# Altium schematic symbol library JEILI_DEV_BOARD.SchLib: 63 symbols
Pins are listed as number, name and electrical type; pins without a type are passive.

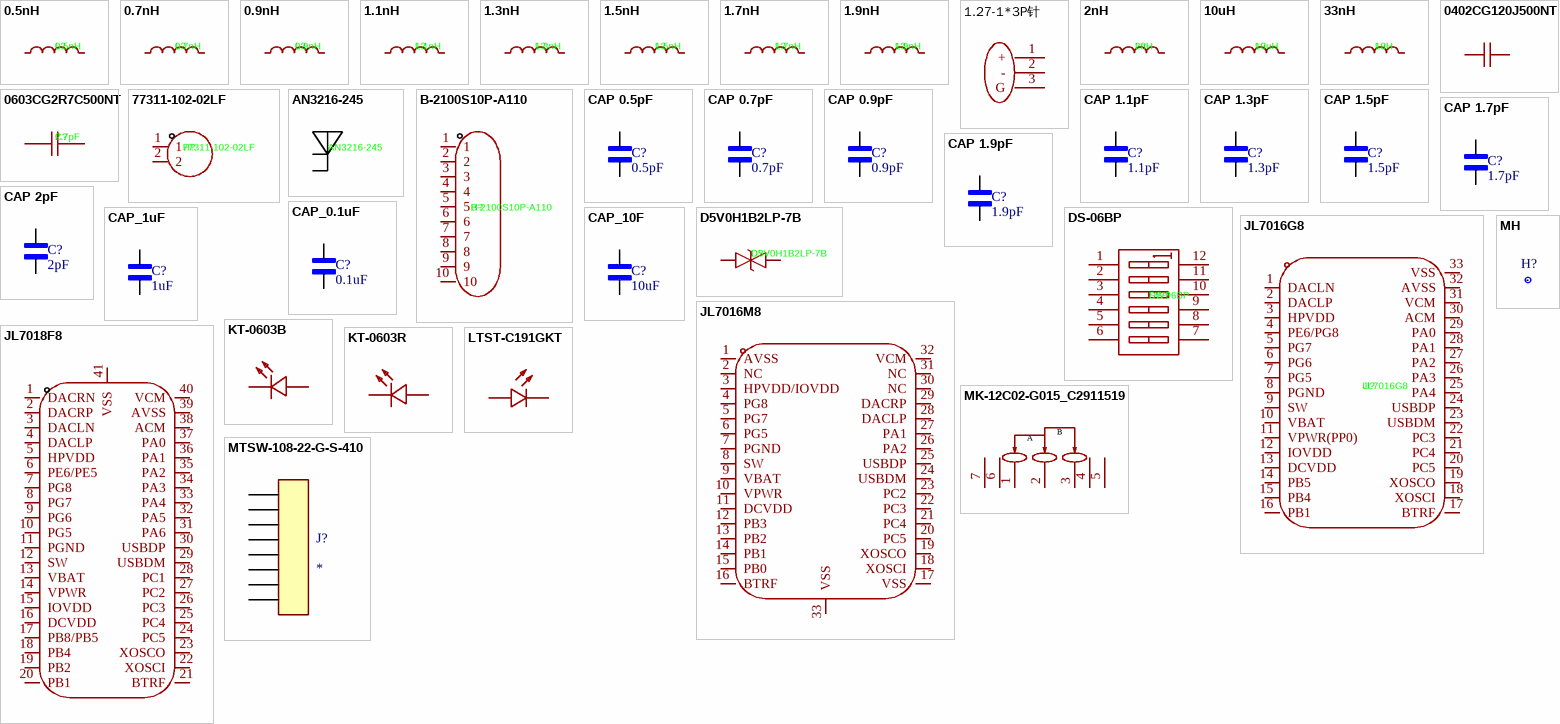
[diagram p0: symbols 0.5nH to MTSW-108-22-G-S-410]

## 0.5nH
designator L?
0.5nH 100mΩ 10GHz 1A Multilayer inductor 0402 Inductors (SMD) ROHS; Manufacturer: TDK; Manufacturer Part: MLG1005S0N5BT000; Symbol: DFE18SAN1R0ME0L; Add into BOM: yes; Tolerance: ±20%; Current Rating: 1.6A; DC Resistance(DCR): 144mΩ; Device: DFE18SAN1R0ME0L; LCSC Part Name: 1uH ±20%; Supplier Part: C87528; Supplier Footprint: 0603; JLCPCB Part Class: Extended Part; Datasheet: https://atta.szlcsc.com/upload/public/pdf/source/20210601/1EEB72040C737E24AB5C3900F417DA4B.pdf; Supplier: LCSC; Convert to PCB: yes; Value: 0.5nH; Current - Saturation (Isat): -; Q @ Frequency: -; Frequency - Self Resonant: -; Ratings: -
footprint L0603
3D model L0603_L1.6-W0.8-H0.5_BEAD
pins: 1, 2

## 0.7nH
designator L?
0.7nH 100mΩ 10GHz 1A Multilayer inductor 0402 Inductors (SMD) ROHS; Manufacturer: TDK; Manufacturer Part: MLG1005S0N7BT000; Symbol: DFE18SAN1R0ME0L; Add into BOM: yes; Tolerance: ±20%; Current Rating: 1.6A; DC Resistance(DCR): 144mΩ; Device: DFE18SAN1R0ME0L; LCSC Part Name: 1uH ±20%; Supplier Part: C275262; Supplier Footprint: 0603; JLCPCB Part Class: Extended Part; Datasheet: https://atta.szlcsc.com/upload/public/pdf/source/20210601/1EEB72040C737E24AB5C3900F417DA4B.pdf; Supplier: LCSC; Convert to PCB: yes; Value: 0.7nH; Current - Saturation (Isat): -; Q @ Frequency: -; Frequency - Self Resonant: -; Ratings: -
footprint L0603
3D model L0603_L1.6-W0.8-H0.5_BEAD
pins: 1, 2

## 0.9nH
designator L?
0.9nH 100mΩ 10GHz 1A Multilayer inductor 0402 Inductors (SMD) ROHS; Manufacturer: TDK; Manufacturer Part: MLG1005S0N9BT000; Symbol: DFE18SAN1R0ME0L; Add into BOM: yes; Tolerance: ±20%; Current Rating: 1.6A; DC Resistance(DCR): 144mΩ; Device: DFE18SAN1R0ME0L; LCSC Part Name: 1uH ±20%; Supplier Part: C275263; Supplier Footprint: 0603; JLCPCB Part Class: Extended Part; Datasheet: https://atta.szlcsc.com/upload/public/pdf/source/20210601/1EEB72040C737E24AB5C3900F417DA4B.pdf; Supplier: LCSC; Convert to PCB: yes; Value: 0.9nH; Current - Saturation (Isat): -; Q @ Frequency: -; Frequency - Self Resonant: -; Ratings: -
footprint L0603
3D model L0603_L1.6-W0.8-H0.5_BEAD
pins: 1, 2

## 1.1nH
designator L?
1.1nH 10GHz 1A 30mΩ 7@100MHz AEC-Q200 Multilayer inductor 0402 Inductors (SMD) ROHS; Manufacturer: TDK; Manufacturer Part: MLG1005S1N1BTD25; Symbol: DFE18SAN1R0ME0L; Add into BOM: yes; Tolerance: ±20%; Current Rating: 1.6A; DC Resistance(DCR): 144mΩ; Device: DFE18SAN1R0ME0L; LCSC Part Name: 1uH ±20%; Supplier Part: C404613; Supplier Footprint: 0603; JLCPCB Part Class: Extended Part; Datasheet: https://atta.szlcsc.com/upload/public/pdf/source/20210601/1EEB72040C737E24AB5C3900F417DA4B.pdf; Supplier: LCSC; Convert to PCB: yes; Value: 1.1nH; Current - Saturation (Isat): -; Q @ Frequency: -; Frequency - Self Resonant: -; Ratings: -
footprint L0603
3D model L0603_L1.6-W0.8-H0.5_BEAD
pins: 1, 2

## 1.3nH
designator L?
1.3nH 1A 40mΩ 7@100MHz 8GHz Multilayer inductor 0402 Inductors (SMD) ROHS; Manufacturer: TDK; Manufacturer Part: MLG1005S1N3BT000; Symbol: DFE18SAN1R0ME0L; Add into BOM: yes; Tolerance: ±20%; Current Rating: 1.6A; DC Resistance(DCR): 144mΩ; Device: DFE18SAN1R0ME0L; LCSC Part Name: 1uH ±20%; Supplier Part: C76767; Supplier Footprint: 0603; JLCPCB Part Class: Extended Part; Datasheet: https://atta.szlcsc.com/upload/public/pdf/source/20210601/1EEB72040C737E24AB5C3900F417DA4B.pdf; Supplier: LCSC; Convert to PCB: yes; Value: 1.3nH; Current - Saturation (Isat): -; Q @ Frequency: -; Frequency - Self Resonant: -; Ratings: -
footprint L0603
3D model L0603_L1.6-W0.8-H0.5_BEAD
pins: 1, 2

## 1.5nH
designator L?
1.5nH 100mΩ 500mA 6GHz 8@100MHz Multilayer inductor 0603 Inductors (SMD) ROHS; Manufacturer: Sunlord; Manufacturer Part: SDCL1608C1N5STDF; Symbol: DFE18SAN1R0ME0L; Add into BOM: yes; Tolerance: ±20%; Current Rating: 1.6A; DC Resistance(DCR): 144mΩ; Device: DFE18SAN1R0ME0L; LCSC Part Name: 1uH ±20%; Supplier Part: C22223; Supplier Footprint: 0603; JLCPCB Part Class: Extended Part; Datasheet: https://atta.szlcsc.com/upload/public/pdf/source/20210601/1EEB72040C737E24AB5C3900F417DA4B.pdf; Supplier: LCSC; Convert to PCB: yes; Value: 1.5nH; Current - Saturation (Isat): -; Q @ Frequency: -; Frequency - Self Resonant: -; Ratings: -
footprint L0603
3D model L0603_L1.6-W0.8-H0.5_BEAD
pins: 1, 2

## 1.7nH
designator L?
1.7nH 100mΩ 640mA 0402 Inductors (SMD) ROHS; Manufacturer: Sunlord; Manufacturer Part: MWSD1005C1N7STM01; Symbol: DFE18SAN1R0ME0L; Add into BOM: yes; Tolerance: ±20%; Current Rating: 1.6A; DC Resistance(DCR): 144mΩ; Device: DFE18SAN1R0ME0L; LCSC Part Name: 1uH ±20%; Supplier Part: C778761; Supplier Footprint: 0603; JLCPCB Part Class: Extended Part; Datasheet: https://atta.szlcsc.com/upload/public/pdf/source/20210601/1EEB72040C737E24AB5C3900F417DA4B.pdf; Supplier: LCSC; Convert to PCB: yes; Value: 1.7nH; Current - Saturation (Isat): -; Q @ Frequency: -; Frequency - Self Resonant: -; Ratings: -
footprint L0603
3D model L0603_L1.6-W0.8-H0.5_BEAD
pins: 1, 2

## 1.9nH
designator L?
1.04A 1.9nH 11.3MHz 16@250MHz 70mΩ 0402 Inductors (SMD) ROHS; Manufacturer: Chilisin Elec; Manufacturer Part: CS0402-1N9B-S; Symbol: DFE18SAN1R0ME0L; Add into BOM: yes; Tolerance: ±20%; Current Rating: 1.6A; DC Resistance(DCR): 144mΩ; Device: DFE18SAN1R0ME0L; LCSC Part Name: 1uH ±20%; Supplier Part: C142187; Supplier Footprint: 0603; JLCPCB Part Class: Extended Part; Datasheet: https://atta.szlcsc.com/upload/public/pdf/source/20210601/1EEB72040C737E24AB5C3900F417DA4B.pdf; Supplier: LCSC; Convert to PCB: yes; Value: 1.9nH; Current - Saturation (Isat): -; Q @ Frequency: -; Frequency - Self Resonant: -; Ratings: -
footprint L0603
3D model L0603_L1.6-W0.8-H0.5_BEAD
pins: 1, 2

## 1.27-1*3P针
designator P?  (value not drawn)
Manufacturer: BOOMELE(博穆精密); Symbol: 1.27mm/1*3p; Add into BOM: yes; Pin Structure: 1x3P; Pitch: 1.27mm; Circluar Pins/Square Pins: Pin Header; Current Rating: 3A; Device: 1.27-1*3P针; LCSC Part Name: 1x3P 间距:1.27mm 方针 直插; Supplier Part: C24980; Manufacturer Part: 1.27-1*3P针; Supplier Footprint: 插件,P=1.27mm; JLCPCB Part Class: Extended Part; Datasheet: https://item.szlcsc.com/datasheet/1.27-1*3P%25E9%2592%2588/25717.html; Supplier: LCSC; Convert to PCB: yes; Row Spacing: -; Mounting Type: Through Hole; Number of Rows: 1; Number of Pins: 3P; Voltage Rating (Max): -; Length of Mating Pin: 3mm; Insulation Height: 1.7mm; Length of End Connection Pin: 2.5mm; Contact Material: Brass; Contact Plating: -; Operating Temperature: -55℃~+105℃; Color: Black; Supplementary Features: -
footprint HDR-TH_3P-P1.27-V-M-1
3D model HDR-TH_3P-P1.27-M-LI-1X3P
pins: 1 +, 2 -, 3 G

## 2nH
designator L?
2nH Multilayer inductor 0603 Inductors (SMD) ROHS; Manufacturer: Murata Electronics; Manufacturer Part: SDCL1608C2N0STDF; Symbol: DFE18SAN1R0ME0L; Add into BOM: yes; Tolerance: ±20%; Current Rating: 1.6A; DC Resistance(DCR): 144mΩ; Device: DFE18SAN1R0ME0L; LCSC Part Name: 1uH ±20%; Supplier Part: C370234; Supplier Footprint: 0603; JLCPCB Part Class: Extended Part; Datasheet: https://atta.szlcsc.com/upload/public/pdf/source/20210601/1EEB72040C737E24AB5C3900F417DA4B.pdf; Supplier: LCSC; Convert to PCB: yes; Value: 2nH; Current - Saturation (Isat): -; Q @ Frequency: -; Frequency - Self Resonant: -; Ratings: -
footprint L0603
3D model L0603_L1.6-W0.8-H0.5_BEAD
pins: 1, 2

## 10uH
designator L?
Value: 1uH; LCSC Part Name: 1uH ±20%; Q @ Frequency: -; Frequency - Self Resonant: -; Ratings: -
footprint L0603
3D model L0603_L1.6-W0.8-H0.5_BEAD
pins: 1, 2

## 33nH
designator L?, comment 1uH
Manufacturer: muRata(村田); Symbol: DFE18SAN1R0ME0L; Add into BOM: yes; Tolerance: ±20%; Current Rating: 1.6A; DC Resistance(DCR): 144mΩ; Device: DFE18SAN1R0ME0L; LCSC Part Name: 1uH ±20%; Supplier Part: C2044564; Manufacturer Part: DFE18SAN1R0ME0L; Supplier Footprint: 0603; JLCPCB Part Class: Extended Part; Datasheet: https://atta.szlcsc.com/upload/public/pdf/source/20210601/1EEB72040C737E24AB5C3900F417DA4B.pdf; Supplier: LCSC; Convert to PCB: yes; Value: 1uH; Current - Saturation (Isat): -; Q @ Frequency: -; Frequency - Self Resonant: -; Ratings: -
footprint L0603
3D model L0603_L1.6-W0.8-H0.5_BEAD
pins: 1, 2

## 0402CG120J500NT
designator C?, comment 12pF  (value not drawn)
Manufacturer: FH(风华); Symbol: 0402CG120J500NT; Add into BOM: yes; Tolerance: ±5%; Voltage Rating: 50V; Temperature Coefficient: C0G; Device: 0402CG120J500NT; LCSC Part Name: 12pF ±5% 50V; Supplier Part: C1547; Manufacturer Part: 0402CG120J500NT; Supplier Footprint: 0402; JLCPCB Part Class: Basic Part; Datasheet: https://item.szlcsc.com/datasheet/0402CG120J500NT/1899.html; Supplier: LCSC; Convert to PCB: yes; Value: 12pF
footprint C0402
3D model C0402_L1.0-W0.5-H0.5
pins: 1, 2

## 0603CG2R7C500NT
designator C?, comment 2.7pF
Manufacturer: FH(风华); Symbol: 0603CG2R7C500NT; Add into BOM: yes; Voltage Rating: 50V; Temperature Coefficient: C0G; Device: 0603CG2R7C500NT; LCSC Part Name: ±0.25pF 2.7pF 50V; Supplier Part: C95180; Manufacturer Part: 0603CG2R7C500NT; Supplier Footprint: 0603; JLCPCB Part Class: Extended Part; Datasheet: https://item.szlcsc.com/datasheet/0603CG2R7C500NT/96381.html; Supplier: LCSC; Convert to PCB: yes; Value: 2.7pF
footprint C0603
3D model C0603_L1.6-W0.8-H0.8
pins: 1, 2

## 77311-102-02LF
designator H?
Manufacturer: Amphenol; Add into BOM: yes; Pitch: 2.54mm; Circluar Pins/Square Pins: Pin Header; Current Rating: 3A; Symbol: 77311-102-02LF; Device: 77311-102-02LF; LCSC Part Name: 间距:2.54mm 方针 直插; Supplier Part: C180247; Manufacturer Part: 77311-102-02LF; Supplier Footprint: 插件,P=2.54mm; JLCPCB Part Class: Extended Part; Datasheet: https://item.szlcsc.com/datasheet/77311-102-02LF/191642.html; Supplier: LCSC; Convert to PCB: yes; Pin Structure: -; Row Spacing: -; Mounting Type: Through Hole; Number of Rows: 1; Number of Pins: 2P; Voltage Rating (Max): -; Length of Mating Pin: -; Insulation Height: 2.54mm; Contact Material: Phosphor Bronze; Contact Plating: Tin; Operating Temperature: -65℃~+125℃; Color: Black
footprint HDR-TH_2P-P2.54-V-M-1
3D model HDR-M-2.54_1x2
pins: 1, 2

## AN3216-245
designator ANT?
Manufacturer: Rainsun(霖昱微); Add into BOM: yes; Frequency(Center/Band): 2.45GHz; Bandwidth: 100MHz; Peak Gain: 0.5dBi; Impedance: 50Ω; Power: 1W; VSWR: 2.5; Symbol: AN3216-245; Device: AN3216-245; LCSC Part Name: AN3216-245; Supplier Part: C2916136; Manufacturer Part: AN3216-245; Supplier Footprint: 1206; JLCPCB Part Class: Extended Part; Datasheet: https://item.szlcsc.com/datasheet/AN3216-245/3211390.html; Supplier: LCSC; Convert to PCB: yes; Operating Temperature: -40℃~+85℃; Length: 3.2mm; Width: 1.6mm; Height: 1.3mm
footprint ANT-SMD_L3.2-W1.6-A
3D model ANT-SMD_L3.2-W1.6-H1.3
pins: 1, 2

## B-2100S10P-A110
designator H?
Manufacturer: Ckmtw(灿科盟); Symbol: 210S-1*10P L=11.6MMGold-plated black; Add into BOM: yes; Pin Structure: 1x10P; Pitch: 2.54mm; Device: B-2100S10P-A110; LCSC Part Name: 2.54直排针; Supplier Part: C124372; Manufacturer Part: B-2100S10P-A110; Supplier Footprint: 插件,P=2.54mm; JLCPCB Part Class: Extended Part; Datasheet: https://item.szlcsc.com/datasheet/B-2100S10P-A110/125647.html; Supplier: LCSC; Convert to PCB: yes; Row Spacing: -; Circluar Pins/Square Pins: -; Mounting Type: Through Hole; Number of Rows: 1; Number of Pins: 10P; Current Rating: -; Voltage Rating (Max): -; Length of Mating Pin: 6mm; Insulation Height: 2.54mm; Length of End Connection Pin: 3mm; Contact Material: Brass; Contact Plating: -; Operating Temperature: -40℃~+105℃; Color: Black
footprint HDR-TH_10P-P2.54-V-M-1
3D model HDR2.54-M-LI-1X10P
pins: 1, 2, 3, 4, 5, 6, 7, 8, 9, 10

## CAP 0.5pF
designator C?, comment 0.5pF
0.5pF 50V C0G 0402 Multilayer Ceramic Capacitors MLCC - SMD/SMT ROHS; Manufacturer: FH (Guangdong Fenghua Advanced Tech); MFR.Part #: 0402CG0R5C500NT; JLCPCB Part #: C1544; Package: 0402; Value: 0.5pF
footprint C0402
pins: 1, 2

## CAP 0.7pF
designator C?, comment 0.7pF
0.7pF 50V C0G 0402 Multilayer Ceramic Capacitors MLCC - SMD/SMT ROHS; Manufacturer: FH (Guangdong Fenghua Advanced Tech); MFR.Part #: 0402CG0R7C500NT; JLCPCB Part #: C284999; Package: 0402; Value: 0.7pF
footprint C0402
pins: 1, 2

## CAP 0.9pF
designator C?, comment 0.9pF
0.9pF 50V C0G 0402 Multilayer Ceramic Capacitors MLCC - SMD/SMT ROHS; Manufacturer: FH (Guangdong Fenghua Advanced Tech); MFR.Part #: 0402CG0R9B500NT; JLCPCB Part #: C6563238; Package: 0402; Value: 0.9pF
footprint C0402
pins: 1, 2

## CAP 1.1pF
designator C?, comment 1.1pF
1.1pF 50V C0G 0402 Multilayer Ceramic Capacitors MLCC - SMD/SMT ROHS; Manufacturer: Murata Electronics; MFR.Part #: GJM1555C1H1R1WB01D; JLCPCB Part #: C88879; Package: 0402; Value: 1.1pF
footprint C0402
pins: 1, 2

## CAP 1.3pF
designator C?, comment 1.3pF
1.3pF 50V C0G 0402 Multilayer Ceramic Capacitors MLCC - SMD/SMT ROHS; Manufacturer: Murata Electronics; MFR.Part #: GJM1555C1H1R3WB01D; JLCPCB Part #: C88880; Package: 0402; Value: 1.3pF
footprint C0402
pins: 1, 2

## CAP 1.5pF
designator C?, comment 1.5pF
1.5pF 50V C0G 0402 Multilayer Ceramic Capacitors MLCC - SMD/SMT ROHS; Manufacturer: Murata Electronics; MFR.Part #: GJM1555C1H1R5BB01D; JLCPCB Part #: C76900; Package: 0402; Value: 1.5pF
footprint C0402
pins: 1, 2

## CAP 1.7pF
designator C?, comment 1.7pF
1.7pF 50V C0G 0402 Multilayer Ceramic Capacitors MLCC - SMD/SMT ROHS; Manufacturer: Murata Electronics; MFR.Part #: GJM1555C1H1R7WB01D; JLCPCB Part #: C471379; Package: 0402; Value: 1.7pF
footprint C0402
pins: 1, 2

## CAP 1.9pF
designator C?, comment 1.9pF
1.9pF 50V C0G 0402 Multilayer Ceramic Capacitors MLCC - SMD/SMT ROHS; Manufacturer: Murata Electronics; MFR.Part #: GJM1555C1H1R9BB01D; JLCPCB Part #: C161314; Package: 0402; Value: 1.9pF
footprint C0402
pins: 1, 2

## CAP 2pF
designator C?, comment 2pF
2pF 50V C0G 0402 Multilayer Ceramic Capacitors MLCC - SMD/SMT ROHS; Manufacturer: Murata Electronics; MFR.Part #: GJM1555C1H2R0WB01D; JLCPCB Part #: C88885; Package: 0402; Value: 2pF
footprint C0402
pins: 1, 2

## CAP_0.1uF
designator C?, comment 0.1uF
100nF 10V X7R ±5% 0402 Multilayer Ceramic Capacitors MLCC - SMD/SMT ROHS; Manufacturer: Walsin Tech Corp; MFR.Part #: 0402B104J100CT; JLCPCB Part #: C237170; Package: 0402; Value: 0.1uF
footprint C0603
footprint CAPC3216X170N
pins: 1, 2

## CAP_1uF
designator C?, comment 1uF
Value: 1uF
footprint C0603
footprint CAPC3216X170N
pins: 1, 2

## CAP_10F
designator C?, comment 10uF
Value: 10uF
footprint C0603
footprint CAPC3216X170N
pins: 1, 2

## D5V0H1B2LP-7B
designator D?
Manufacturer: DIODES(美台); Add into BOM: yes; polarity: Bi-Directional; Reverse Stand-Off Voltage (Vrwm): 5.5V; Maximum Clamping Voltage: 12.5V; Peak Pulse Current (Ipp)@10/1000us: 30A@8/20us; Peak Pulse Power Dissipation (Ppp)@10/1000us: 375W; Breakdown Voltage: 6V; Type: TVS; Symbol: D5V0H1B2LP-7B; Device: D5V0H1B2LP-7B; LCSC Part Name: D5V0H1B2LP-7B; Supplier Part: C443643; Manufacturer Part: D5V0H1B2LP-7B; Supplier Footprint: X1-DFN1006-2; JLCPCB Part Class: Extended Part; Datasheet: https://atta.szlcsc.com/upload/public/pdf/source/20191030/C443643_445FAB8E20017E126E235040C54EFE8C.pdf; Supplier: LCSC; Convert to PCB: yes
footprint X1-DFN1006-2_L1.0-W0.6-BI
3D model X1-DFN1006-2_L1.0-W0.6-H0.5-BI
pins: 1, 2

## DS-06BP
designator SW?
Manufacturer: 韩国韩荣; Add into BOM: yes; Circuit: SPST; Number of Positions: 6; Current Rating: 25mA; Voltage Rating: 24V; Operating Life: 3,000 Cycles; Symbol: DS-06BP; Device: DS-06BP; LCSC Part Name: 间距2.54mm 平拨,凸起式 6位拨码开关; Supplier Part: C129072; Manufacturer Part: DS-06BP; Supplier Footprint: 插件; JLCPCB Part Class: Extended Part; Datasheet: https://item.szlcsc.com/datasheet/DS-06BP/140358.html; Supplier: LCSC; Convert to PCB: yes; Type: Slide, Rocked; Lead Pitch: 2.54mm; Operating Temperature: -20℃~+70℃; Color: Blue
footprint SW-TH_DS-06XP
3D model SW-TH_DS-06XP-L16.9-W9.6-H6.8-P2.54
pins: 1 A1, 2 A2, 3 A3, 4 A4, 5 A5, 6 A6, 7, 8, 9, 10, 11, 12

## JL7016G8
designator U?
Manufacturer: JL(杰理); Add into BOM: yes; Symbol: JL7016G8; Device: JL7016G8; LCSC Part Name: JL7016G8; Supplier Part: C22440782; Manufacturer Part: JL7016G8; Supplier Footprint: QFN-32(4x4); JLCPCB Part Class: Extended Part; Datasheet: https://atta.szlcsc.com/upload/public/pdf/source/20240530/E944A80303950A6147680AC436B49373.pdf; Supplier: LCSC; Convert to PCB: yes
footprint QFN-32_L4.0-W4.0-P0.40-TL-EP2.7
3D model QFN-32_L4.0-W4.0-P0.40-TL-EP2.7
pins: 1 DACLN, 2 DACLP, 3 HPVDD, 4 PE6/PG8, 5 PG7, 6 PG6, 7 PG5, 8 PGND, 9 SW, 10 VBAT, 11 VPWR(PP0), 12 IOVDD, 13 DCVDD, 14 PB5, 15 PB4, 16 PB1, 17 BTRF, 18 XOSCI, 19 XOSCO, 20 PC5, 21 PC4, 22 PC3, 23 USBDM, 24 USBDP, 25 PA4, 26 PA3, 27 PA2, 28 PA1, 29 PA0, 30 ACM, 31 VCM, 32 AVSS, 33 VSS

## JL7016M8
designator U?  (value not drawn)
Manufacturer: JL(杰理); Add into BOM: yes; Symbol: JL7016M8; Device: JL7016M8; LCSC Part Name: JL7016M8; Supplier Part: C22440800; Manufacturer Part: JL7016M8; Supplier Footprint: QFN-32(4x4); JLCPCB Part Class: Extended Part; Datasheet: https://item.szlcsc.com/datasheet/JL7016M8/24089791.html; Supplier: LCSC; Convert to PCB: yes
footprint QFN-32_L4.0-W4.0-P0.40-TL-EP2.7_1
3D model QFN-32_L4.0-W4.0-P0.40-TL-EP2.7_1
pins: 1 AVSS, 2 NC, 3 HPVDD/IOVDD, 4 PG8, 5 PG7, 6 PG5, 7 PGND, 8 SW, 9 VBAT, 10 VPWR, 11 DCVDD, 12 PB3, 13 PB2, 14 PB1, 15 PB0, 16 BTRF, 17 VSS, 18 XOSCI, 19 XOSCO, 20 PC5, 21 PC4, 22 PC3, 23 PC2, 24 USBDM, 25 USBDP, 26 PA2, 27 PA1, 28 DACLP, 29 DACRP, 30 NC, 31 NC, 32 VCM, 33 VSS

## JL7018F8
designator U?  (value not drawn)
Manufacturer: JL(杰理); Add into BOM: yes; Symbol: JL7018F8; Device: JL7018F8; LCSC Part Name: JL7018F8; Supplier Part: C22440784; Manufacturer Part: JL7018F8; Supplier Footprint: QFN-40(5x5); JLCPCB Part Class: Extended Part; Datasheet: https://atta.szlcsc.com/upload/public/pdf/source/20240530/C76432E100E871E73B9BDB95A008B29A.pdf; Supplier: LCSC; Convert to PCB: yes
footprint QFN-40_L5.0-W5.0-P0.40-TL-EP3.6
3D model QFN-40_L5.0-W5.0-P0.40-TL-EP3.6
pins: 1 DACRN, 2 DACRP, 3 DACLN, 4 DACLP, 5 HPVDD, 6 PE6/PE5, 7 PG8, 8 PG7, 9 PG6, 10 PG5, 11 PGND, 12 SW, 13 VBAT, 14 VPWR, 15 IOVDD, 16 DCVDD, 17 PB8/PB5, 18 PB4, 19 PB2, 20 PB1, 21 BTRF, 22 XOSCI, 23 XOSCO, 24 PC5, 25 PC4, 26 PC3, 27 PC2, 28 PC1, 29 USBDM, 30 USBDP, 31 PA6, 32 PA5, 33 PA4, 34 PA3, 35 PA2, 36 PA1, 37 PA0, 38 ACM, 39 AVSS, 40 VCM, 41 VSS

## KT-0603B
designator LED?  (value not drawn)
Manufacturer: KENTO; Symbol: Blue light 0603; Add into BOM: yes; Illumination Color: Blue; Voltage - Forward(Vf): 3.1V; Power(Watts): 100mW; Forward Current: 5mA; Wavelength - Dominant: 460nm~475nm; Peak Wavelength: 469nm; Lens Color: Water Clear; Luminous Intensity: 175mcd; Viewing Angle: 120°; Device: KT-0603B; LCSC Part Name: 0603 蓝灯 高亮; Supplier Part: C2288; Manufacturer Part: KT-0603B; Supplier Footprint: 0603; JLCPCB Part Class: Extended Part; Datasheet: https://item.szlcsc.com/datasheet/KT-0603B/2661.html; Supplier: LCSC; Convert to PCB: yes; Diode Configuration: -; Color Temperature: -; Mounting Style: -; Operating Temperature: -
footprint LED0603-RD
3D model LED0603-RD
pins: 1 K, 2 A

## KT-0603R
designator LED?  (value not drawn)
Manufacturer: KENTO; Add into BOM: yes; Emitted Color: Red; Symbol: KT-0603R; Device: KT-0603R; LCSC Part Name: 0603 红灯 高亮; Supplier Part: C2286; Manufacturer Part: KT-0603R; Supplier Footprint: 0603; JLCPCB Part Class: Basic Part; Datasheet: https://atta.szlcsc.com/upload/public/pdf/source/20160616/1466072038404.pdf; Supplier: LCSC; Convert to PCB: yes; Power Dissipation: -; Forward Current: -; Dominant Wavelength: -; Peak Wavelength: -; Diode Configuration: -; Lens Color: -; Color Temperature: -; Viewing Angle: -; Mounting Sytle: -; Operating Temperature: -40℃~+85℃
footprint LED0603-RD
3D model LED0603-RD
pins: 1 K, 2 A

## LTST-C191GKT
designator LED?  (value not drawn)
-55℃~+85℃ 100mW 12mcd 130° 2.1V 20mA 565nm 569nm Discrete Diode Green Water Clear 0603 LED Indication - Discrete ROHS; Manufacturer: LITEON(光宝); Add into BOM: yes; Symbol: LTST-C191GKT; Device: LTST-C191GKT; LCSC Part Name: LTST-C191GKT; Supplier Part: C99289; Manufacturer Part: LTST-C191GKT; Supplier Footprint: 0603; JLCPCB Part Class: Extended Part; Datasheet: https://item.szlcsc.com/datasheet/LTST-C191GKT/100502.html; Supplier: LCSC; Convert to PCB: yes; Illumination Color: -; Voltage - Forward(Vf): 2.1V; Power(Watts): 100mW; Forward Current: 20mA; Wavelength - Dominant: 569nm; Peak Wavelength: 565nm; Diode Configuration: -; Lens Color: Water Clear; Color Temperature: -; Luminous Intensity: 12mcd; Viewing Angle: 130°; Mounting Style: -; Operating Temperature: -55℃~+85℃
footprint LED0603-R-RD_GREEN
3D model LED0603-RD_GREEN
pins: 1 A, 2 C

## MH
designator H?  (value not drawn)
footprint MH
pins: 1

## MK-12C02-G015_C2911519
designator SW?, comment MK-12C02-G015  (value not drawn)
Manufacturer: G-Switch(品赞); Device: MK-12C02-G015_C2911519; Add into BOM: yes; Circuit: SPDT; Actuator Style: Rectangular Columnar; Switch Height: 4.2mm; Actuator Color: Black; Current Rating: 1A; Voltage Rating: 6V; Life: 10,000 Cycles; Symbol: MK-12C02-G015; LCSC Part Name: 七脚贴片微型拨动开关 G1.5; Supplier Part: C2911519; Manufacturer Part: MK-12C02-G015; Supplier Footprint: SMD,6.6x1.4mm; JLCPCB Part Class: Extended Part; Datasheet: https://item.szlcsc.com/datasheet/MK-12C02-G015/3191561.html; Supplier: LCSC; Convert to PCB: yes; Termination Style: -; Length: 6.6mm; Width: 1.4mm; Mounting Type: Surface Mount, Right Angle; Operating Temperature: -20℃~+70℃
footprint SW-SMD_G-SWITCH_MK-12C02-G015
3D model SW-SMD_MK-12C02-G020
pins: 1, 2, 3, 4, 5, 6, 7
text: B; A

## MTSW-108-22-G-S-410
designator J?
MP: MTSW-108-22-G-S-410; Price: None; Package: None; Value: *; Availability: Unavailable
footprint SAMTEC_MTSW-108-22-G-S-410
pins: 01, 02, 03, 04, 05, 06, 07, 08

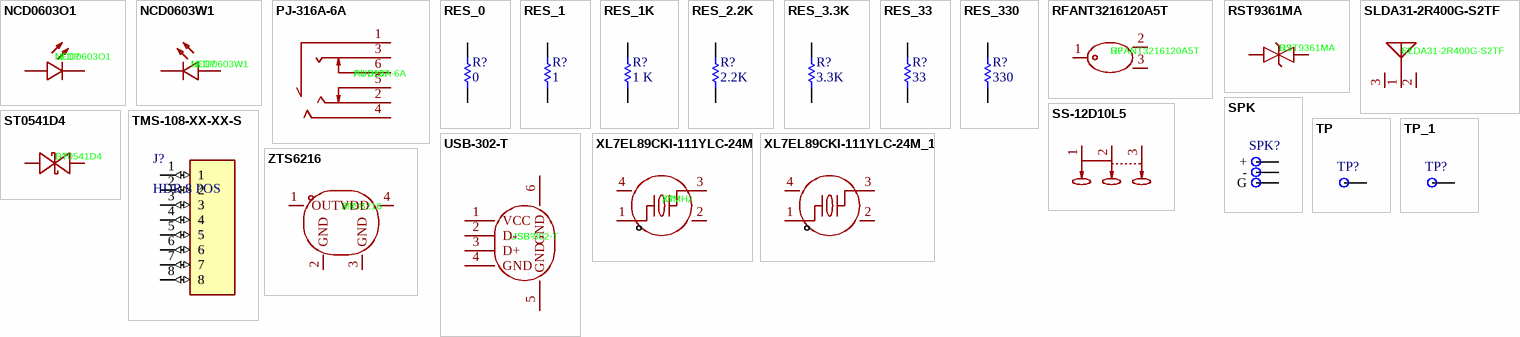
[diagram p1: symbols NCD0603O1 to ZTS6216]

## NCD0603O1
designator LED?
Manufacturer: 国星光电; Symbol: FC-D1608HOK-600H; Add into BOM: yes; Emitted Color: Orange; Forward Voltage (VF): 1.6V~2.6V; Power Dissipation: 65mW; Forward Current: 20mA; Dominant Wavelength: 600nm~610nm; Lens Color: 无色透明透镜; Luminous Intensity: 80mcd~220mcd; Viewing Angle: 130°; Device: NCD0603O1; LCSC Part Name: NCD0603O1; Supplier Part: C84269; Manufacturer Part: NCD0603O1; Supplier Footprint: 0603; JLCPCB Part Class: Extended Part; Datasheet: https://atta.szlcsc.com/upload/public/pdf/source/20200820/C84269_76D7AD616B091E5B61CAF71BD9DDF26F.pdf; Supplier: LCSC; Convert to PCB: yes; Operating Temperature: -30℃~+85℃
footprint LED0603-RD
3D model LED0603-RD
pins: 1 K, 2 A

## NCD0603W1
designator LED?
Manufacturer: 国星光电; Add into BOM: yes; Illumination Color: White; Voltage - Forward(Vf): 2.6V~3.6V; Power(Watts): 72mW; Forward Current: 20mA; Luminous Intensity: 300mcd; Viewing Angle: 130°; Symbol: NCD0603W1; Device: NCD0603W1; LCSC Part Name: 片式发光二极管; Supplier Part: C84265; Manufacturer Part: NCD0603W1; Supplier Footprint: 0603; JLCPCB Part Class: Extended Part; Datasheet: https://item.szlcsc.com/datasheet/NCD0603W1/85434.html; Supplier: LCSC; Convert to PCB: yes; Lens Color: -; Operating Temperature: -30℃~+85℃
footprint LED0603-RD
3D model LED0603-RD
pins: 1 -, 2 +

## PJ-316A-6A
designator AUDIO?
Manufacturer: 韩国韩荣; Add into BOM: yes; Connector Type: 3.5mm Headphone Jack; Current Rating: 500mA; Voltage Rating (Max): 30V; Symbol: PJ-316A-6A; Device: PJ-316A-6A; LCSC Part Name: 3.5mm耳机座; Supplier Part: C128987; Manufacturer Part: PJ-316A-6A; Supplier Footprint: SMD; JLCPCB Part Class: Extended Part; Datasheet: https://item.szlcsc.com/datasheet/PJ-316A-6A/140273.html; Supplier: LCSC; Convert to PCB: yes; Contact Material: Phosphor Bronze; Contact Plating: Gold
footprint AUDIO-SMD_PJ-316A-6A
3D model AUDIO-PJ316A_L14.0-W6.4-H4.0
pins: 1, 2, 3, 4, 5, 6

## RES_0
designator R?  value 0  (hidden comment: RES_0)
-55℃~+155℃ 0Ω 50V 62.5mW Thick Film Resistor ±5% 0402 Chip Resistor - Surface Mount ROHS; Manufacturer: RALEC; MFR.Part #: RTT02000JTH; JLCPCB Part #: C102746; Package: 0402
footprint R0603
pins: 1, 2

## RES_1
designator R?, comment value 1  (hidden comment: O OHM)
-55℃~+155℃ 33Ω 50V 62.5mW Thick Film Resistor ±100ppm/℃ ±5% 0402 Chip Resistor - Surface Mount ROHS; Manufacturer: YAGEO; MFR.Part #: RC0402JR-0733RL; JLCPCB Part #: C137880; Package: 0402
footprint R0603
pins: 1, 2

## RES_1K
designator R?, comment value 1 K  (hidden comment: 1K Ohm)
-55℃~+155℃ 33Ω 50V 62.5mW Thick Film Resistor ±100ppm/℃ ±5% 0402 Chip Resistor - Surface Mount ROHS; Manufacturer: YAGEO; MFR.Part #: RC0402JR-0733RL; JLCPCB Part #: C137880; Package: 0402
footprint R0603
pins: 1, 2

## RES_2.2K
designator R?  value 2.2K
-55℃~+155℃ 33Ω 50V 62.5mW Thick Film Resistor ±100ppm/℃ ±5% 0402 Chip Resistor - Surface Mount ROHS; Manufacturer: YAGEO; MFR.Part #: RC0402JR-0733RL; JLCPCB Part #: C137880; Package: 0402
footprint R0603
pins: 1, 2

## RES_3.3K
designator R?, comment 3.3K
-55℃~+155℃ 33Ω 50V 62.5mW Thick Film Resistor ±100ppm/℃ ±5% 0402 Chip Resistor - Surface Mount ROHS; Manufacturer: YAGEO; MFR.Part #: RC0402JR-0733RL; JLCPCB Part #: C137880; Package: 0402; Value: 3.3K
footprint R0603
pins: 1, 2

## RES_33
designator R?, comment value 33  (hidden comment: 33 Ohm)
-55℃~+155℃ 33Ω 50V 62.5mW Thick Film Resistor ±100ppm/℃ ±5% 0402 Chip Resistor - Surface Mount ROHS; Manufacturer: YAGEO; MFR.Part #: RC0402JR-0733RL; JLCPCB Part #: C137880; Package: 0402
footprint R0603
pins: 1, 2

## RES_330
designator R?, comment value 330  (hidden comment: 330 Ohm)
-55℃~+155℃ 33Ω 50V 62.5mW Thick Film Resistor ±100ppm/℃ ±5% 0402 Chip Resistor - Surface Mount ROHS; Manufacturer: YAGEO; MFR.Part #: RC0402JR-0733RL; JLCPCB Part #: C137880; Package: 0402
footprint R0603
pins: 1, 2

## RFANT3216120A5T
designator U?
Manufacturer: Walsin(华新科); Add into BOM: yes; Antenna Type: Chip Antenna; Frequency(Center/Band): 2.4GHz; Bandwidth: 100MHz; Peak Gain: 2dBi; VSWR: 2; Symbol: RFANT3216120A5T; Device: RFANT3216120A5T; LCSC Part Name: 2.4GHz ISM频段工作频率的多层陶瓷天线; Supplier Part: C127629; Manufacturer Part: RFANT3216120A5T; Supplier Footprint: 1206; JLCPCB Part Class: Extended Part; Datasheet: https://item.szlcsc.com/datasheet/RFANT3216120A5T/138912.html; Supplier: LCSC; Convert to PCB: yes; Impedance: -; Power: -; Operating Temperature: -40℃~+85℃; Diameter (φD): 1.55mm; Length: 3.2mm; Width: 1.6mm; Height: 1.2mm
3D model FILTER-SMD_L3.2-W1.6-H1.2
footprint CUSTOME ANTEENA
pins: 1, 2, 3

## RST9361MA
designator D?
Manufacturer: Slkor(萨科微); Add into BOM: yes; Polarity: Bidirectional; Reverse Stand-Off Voltage (Vrwm): 3.3V; Peak Pulse Power Dissipation (Ppp): 84W; Voltage - Breakdown: 4.2V; Reverse Leakage Current (Ir): 100nA; Number of Channels: Single channel; Type: TVS; Symbol: RST9361MA; Device: RST9361MA; LCSC Part Name: RST9361MA; Supplier Part: C3019926; Manufacturer Part: RST9361MA; Supplier Footprint: DFN1006; JLCPCB Part Class: Extended Part; Datasheet: https://item.szlcsc.com/datasheet/RST9361MA/3538425.html; Supplier: LCSC; Convert to PCB: yes
footprint X1-DFN1006-2_L1.0-W0.6-P0.65-BI
3D model X1-DFN1006-2_L1.0-W0.6-P0.65-BI
pins: 1, 2

## SLDA31-2R400G-S2TF
designator L?
Manufacturer: Sunlord(顺络); Add into BOM: yes; Frequency(Center/Band): 2.4GHz; Bandwidth: 100MHz; Peak Gain: 2.5dBi; Impedance: 50Ω; Power: 3W; VSWR: 2; Symbol: SLDA31-2R400G-S2TF; Device: SLDA31-2R400G-S2TF; LCSC Part Name: 叠层片式天线2400MHz; Supplier Part: C370395; Manufacturer Part: SLDA31-2R400G-S2TF; Supplier Footprint: 1206; JLCPCB Part Class: Extended Part; Datasheet: https://item.szlcsc.com/datasheet/SLDA31-2R400G-S2TF/344146.html; Supplier: LCSC; Convert to PCB: yes; Antenna Type: -; Operating Temperature: -40℃~+85℃; Length: 3.2mm; Width: 1.6mm
3D model ANT-SMD_L3.2-W1.6-H1.3
footprint CUSTOME ANTEENA
pins: 1, 2 NC, 3

## SPK
designator SPK?  (value not drawn)
SPEAKER CONNECTOR
footprint HDR-TH_2P-P2.54-V-M-1
pins: 1 +, 2 -, 3 G

## SS-12D10L5
designator SW?  (value not drawn)
Manufacturer: XKB Connection(中国星坤); Add into BOM: yes; Circuit: SPDT; Actuator Style: Rectangular Columnar; Switch Height: 6.4mm; Actuator Color: Black; Current Rating: 3A; Voltage Rating: 125V; Life: 10,000 Cycles; Symbol: SS-12D10L5; Device: SS-12D10L5; LCSC Part Name: 柄长5mm 直插双档 滑动开关; Supplier Part: C319012; Manufacturer Part: SS-12D10L5; Supplier Footprint: 插件,13x6.8mm; JLCPCB Part Class: Extended Part; Datasheet: https://item.szlcsc.com/datasheet/SS-12D10L5/300104.html; Supplier: LCSC; Convert to PCB: yes; Termination Style: PC Pin; Length: 13mm; Width: 6.8mm; Mounting Type: Through Hole; Operating Temperature: -40℃~+85℃
footprint SW-TH_SS-12D10L5
3D model SW-TH_L13.0-W6.8-H6.4-P4.7
pins: 1, 2, 3

## ST0541D4
designator D?
Manufacturer: Leiditech(雷卯电子); Add into BOM: yes; Reverse Stand-Off Voltage (Vrwm): 5V; Clamping Voltage: 23V; Peak Pulse Power Dissipation (Ppp): 110W@8/20us; Voltage - Breakdown: 6V; Reverse Leakage Current (Ir): 500nA; level of protection: IEC 61000-4-4；IEC 61000-4-5；IEC 61000-4-2; Type: ESD; Junction Capacitance: 0.22pF; Symbol: ST0541D4; Device: ST0541D4; LCSC Part Name: ESD 5V截止; Supplier Part: C5139355; Manufacturer Part: ST0541D4; Supplier Footprint: DFN1006-2; JLCPCB Part Class: Extended Part; Datasheet: https://item.szlcsc.com/datasheet/ST0541D4/5751044.html; Supplier: LCSC; Convert to PCB: yes
footprint DFN1006-BI
3D model DFN1006-BI
pins: 1, 2

## TMS-108-XX-XX-S
designator J?, comment HDR 8 POS
Conn Unshrouded Header HDR 8 POS 1.27mm Solder ST Thru-Hole Tube; MP: TMS-108-51-G-S; MF: Samtec; SnapEDA_Link: https://www.snapeda.com/parts/TMS-108-51-G-S/Samtec/view-part/?ref=snap; Package: None; Check_prices: https://www.snapeda.com/parts/TMS-108-51-G-S/Samtec/view-part/?ref=eda; Purchase-URL: https://pricing.snapeda.com/search/part/TMS-108-51-G-S/?ref=eda; Price: None; Value: *; Availability: In Stock
footprint TMS-108-XX-XX-S
pins: 1 (io), 2 (io), 3 (io), 4 (io), 5 (io), 6 (io), 7 (io), 8 (io)

## TP
designator TP?  (value not drawn)
test point
footprint TP
pins: 1

## TP_1
designator TP?  (value not drawn)
test point
footprint TP
pins: 1

## USB-302-T
designator USB?
Manufacturer: SOFNG(硕方); Add into BOM: yes; Connector Type: Type-A; Protocol Standard: USB 2.0; Gender: Female; Number of Contacts: 4P; Number of Ports: 1; Current Rating-Power: 50mA; Voltage Rating: 24V; Detection color: White; Symbol: USB-302; Device: USB-302-T; LCSC Part Name: Type-A 母 弯插; Supplier Part: C112456; Manufacturer Part: USB-302-T; Supplier Footprint: 弯插; JLCPCB Part Class: Extended Part; Datasheet: https://item.szlcsc.com/datasheet/USB-302-T/113689.html; Supplier: LCSC; Convert to PCB: yes; Mounting Type: Right Angle; Operating Temperature: -25℃~+75℃
footprint USB-A-TH_USB-302-T
3D model USB-A-TH_USB-A-F-90
pins: 1 VCC, 2 D-, 3 D+, 4 GND, 5 GND, 6 GND

## XL7EL89CKI-111YLC-24M
designator X?, comment 24MHz
Manufacturer: YXC(扬兴晶振); Symbol: XL7EL89CKI-111YLC-24M; Add into BOM: yes; Normal temperature Frequency Tolerance: ±10ppm; Load Capacitance: 8pF; Frequency Stability: ±20ppm; Device: XL7EL89CKI-111YLC-24M; LCSC Part Name: YSX211SL 24MHZ 4P 2016 8PF ±10PPM -40~85℃ (±20PPM); Supplier Part: C2965580; Manufacturer Part: XL7EL89CKI-111YLC-24M; Supplier Footprint: SMD2016-4P; JLCPCB Part Class: Extended Part; Datasheet: https://item.szlcsc.com/datasheet/XL7EL89CKI-111YLC-24M/3357716.html; Supplier: LCSC; Convert to PCB: yes; Type: Surface Mount Crystal; Value: 24MHz; Equivalent Series Resistance(ESR): -; Operating Temperature: -40℃~+85℃
footprint CRYSTAL-SMD_4P-L2.0-W1.6-BL-A
3D model CRYSTAL-SMD_4P-L2.0-W1.6-BL-A
pins: 1, 2 GND, 3, 4 GND

## XL7EL89CKI-111YLC-24M_1
designator X?, comment 24MHz  (value not drawn)
Manufacturer: YXC(扬兴晶振); Symbol: XL7EL89CKI-111YLC-24M; Add into BOM: yes; Normal temperature Frequency Tolerance: ±10ppm; Load Capacitance: 8pF; Frequency Stability: ±20ppm; Device: XL7EL89CKI-111YLC-24M; LCSC Part Name: YSX211SL 24MHZ 4P 2016 8PF ±10PPM -40~85℃ (±20PPM); Supplier Part: C2965580; Manufacturer Part: XL7EL89CKI-111YLC-24M; Supplier Footprint: SMD2016-4P; JLCPCB Part Class: Extended Part; Datasheet: https://item.szlcsc.com/datasheet/XL7EL89CKI-111YLC-24M/3357716.html; Supplier: LCSC; Convert to PCB: yes; Type: Surface Mount Crystal; Value: 24MHz; Equivalent Series Resistance(ESR): -; Operating Temperature: -40℃~+85℃
footprint CRYSTAL-SMD_4P-L2.0-W1.6-BL-A
3D model CRYSTAL-SMD_4P-L2.0-W1.6-BL-A
pins: 1, 2 GND, 3, 4 GND

## ZTS6216
designator MIC?
Manufacturer: ZILLTEK(钰太); Add into BOM: yes; Direction: Omnidirectional; Voltage - Supply: 1.5V~3.6V; Current Consumption: 120uA; S/N Ratio: 65dB; Sensitivity: -38dB; Impedance: 100Ω; Output Type: 模拟输出; Symbol: ZTS6216; Device: ZTS6216; LCSC Part Name: 1.5V~3.6V38dB; Supplier Part: C481302; Manufacturer Part: ZTS6216; Supplier Footprint: SMD-4P,2.8x1.9mm; JLCPCB Part Class: Extended Part; Datasheet: https://item.szlcsc.com/datasheet/ZTS6216/488750.html; Supplier: LCSC; Convert to PCB: yes; Length: 2.75mm; Width: 1.85mm; Height: 1mm
footprint MIC-SMD_4P-L2.8-W1.9-P1.84-TL
3D model MIC-SMD_4P-L2.8-W1.9-H1.0-P1.84-TL
pins: 1 OUT, 2 GND, 3 GND, 4 VDD